# EAGLE library part DOUBLE (library dec-con)
Double-Height DEC board
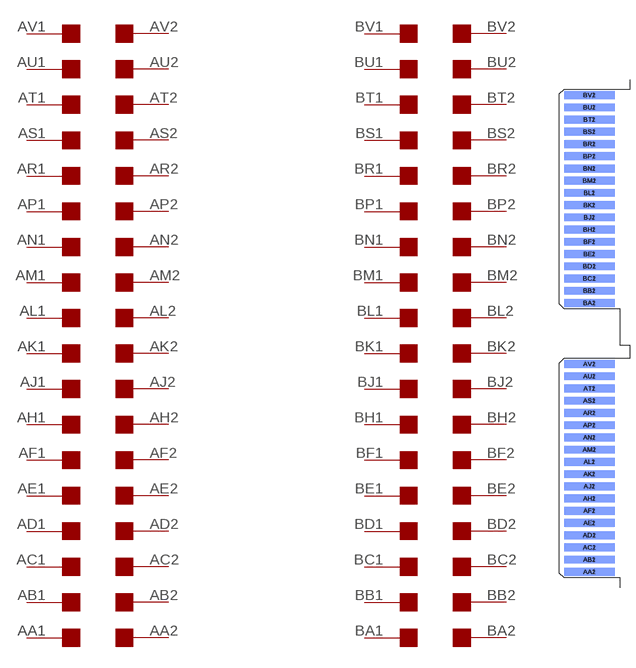
[diagram p5: symbol with the pads of EDGE-CON4; footprint EDGE-CON4]

Designator prefix -; gates AL2=EDGE-RIGHT AM2=EDGE-RIGHT AN2=EDGE-RIGHT AP2=EDGE-RIGHT AR2=EDGE-RIGHT AS2=EDGE-RIGHT AT2=EDGE-RIGHT AK2=EDGE-RIGHT AJ2=EDGE-RIGHT AH2=EDGE-RIGHT AF2=EDGE-RIGHT AE2=EDGE-RIGHT AD2=EDGE-RIGHT AC2=EDGE-RIGHT AU2=EDGE-RIGHT AV2=EDGE-RIGHT AB2=EDGE-RIGHT AA2=EDGE-RIGHT AK1=EDGE-LEFT AL1=EDGE-LEFT AM1=EDGE-LEFT AN1=EDGE-LEFT AP1=EDGE-LEFT AR1=EDGE-LEFT AS1=EDGE-LEFT AT1=EDGE-LEFT AU1=EDGE-LEFT AV1=EDGE-LEFT AJ1=EDGE-LEFT AH1=EDGE-LEFT AF1=EDGE-LEFT AE1=EDGE-LEFT AD1=EDGE-LEFT AC1=EDGE-LEFT AB1=EDGE-LEFT AA1=EDGE-LEFT BV1=EDGE-LEFT BU1=EDGE-LEFT BT1=EDGE-LEFT BS1=EDGE-LEFT BR1=EDGE-LEFT BP1=EDGE-LEFT BN1=EDGE-LEFT BM1=EDGE-LEFT BL1=EDGE-LEFT BK1=EDGE-LEFT BJ1=EDGE-LEFT BH1=EDGE-LEFT BF1=EDGE-LEFT BE1=EDGE-LEFT BD1=EDGE-LEFT BC1=EDGE-LEFT BB1=EDGE-LEFT BA1=EDGE-LEFT BV2=EDGE-RIGHT BU2=EDGE-RIGHT BT2=EDGE-RIGHT BS2=EDGE-RIGHT BR2=EDGE-RIGHT BP2=EDGE-RIGHT BN2=EDGE-RIGHT BM2=EDGE-RIGHT BL2=EDGE-RIGHT BK2=EDGE-RIGHT BJ2=EDGE-RIGHT BH2=EDGE-RIGHT BF2=EDGE-RIGHT BE2=EDGE-RIGHT BD2=EDGE-RIGHT BC2=EDGE-RIGHT BB2=EDGE-RIGHT BA2=EDGE-RIGHT

## DOUBLE  [EDGE-CON4]
AA1  AA1:1
AA2  AA2:1
AB1  AB1:1
AB2  AB2:1
AC1  AC1:1
AC2  AC2:1
AD1  AD1:1
AD2  AD2:1
AE1  AE1:1
AE2  AE2:1
AF1  AF1:1
AF2  AF2:1
AH1  AH1:1
AH2  AH2:1
AJ1  AJ1:1
AJ2  AJ2:1
AK1  AK1:1
AK2  AK2:1
AL1  AL1:1
AL2  AL2:1
AM1  AM1:1
AM2  AM2:1
AN1  AN1:1
AN2  AN2:1
AP1  AP1:1
AP2  AP2:1
AR1  AR1:1
AR2  AR2:1
AS1  AS1:1
AS2  AS2:1
AT1  AT1:1
AT2  AT2:1
AU1  AU1:1
AU2  AU2:1
AV1  AV1:1
AV2  AV2:1
BA1  BA1:1
BA2  BA2:1
BB1  BB1:1
BB2  BB2:1
BC1  BC1:1
BC2  BC2:1
BD1  BD1:1
BD2  BD2:1
BE1  BE1:1
BE2  BE2:1
BF1  BF1:1
BF2  BF2:1
BH1  BH1:1
BH2  BH2:1
BJ1  BJ1:1
BJ2  BJ2:1
BK1  BK1:1
BK2  BK2:1
BL1  BL1:1
BL2  BL2:1
BM1  BM1:1
BM2  BM2:1
BN1  BN1:1
BN2  BN2:1
BP1  BP1:1
BP2  BP2:1
BR1  BR1:1
BR2  BR2:1
BS1  BS1:1
BS2  BS2:1
BT1  BT1:1
BT2  BT2:1
BU1  BU1:1
BU2  BU2:1
BV1  BV1:1
BV2  BV2:1

## Footprint EDGE-CON4 (pad centres in mm)
Double-Height DEC edge connector
smd 13.106 x 2.032: AA1 7.938,4.128; AB1 7.938,7.303; AC1 7.938,10.477; AD1 7.938,13.652; AE1 7.938,16.828; AF1 7.938,20.003; AH1 7.938,23.177; AJ1 7.938,26.352; AK1 7.938,29.527; AL1 7.938,32.703; AM1 7.938,35.877; AN1 7.938,39.053; AP1 7.938,42.227; AR1 7.938,45.403; AS1 7.938,48.578; AT1 7.938,51.752; AU1 7.938,54.928; AV1 7.938,58.102; BA1 7.938,73.978; BB1 7.938,77.153; BC1 7.938,80.328; BD1 7.938,83.502; BE1 7.938,86.677; BF1 7.938,89.853; BH1 7.938,93.028; BJ1 7.938,96.203; BK1 7.938,99.377; BL1 7.938,102.552; BM1 7.938,105.728; BN1 7.938,108.903; BP1 7.938,112.078; BR1 7.938,115.252; BS1 7.938,118.427; BT1 7.938,121.603; BU1 7.938,124.778; BV1 7.938,127.953
smd 13.106 x 2.032 bottom: AA2 7.938,4.128; AB2 7.938,7.303; AC2 7.938,10.477; AD2 7.938,13.652; AE2 7.938,16.828; AF2 7.938,20.003; AH2 7.938,23.177; AJ2 7.938,26.352; AK2 7.938,29.527; AL2 7.938,32.703; AM2 7.938,35.877; AN2 7.938,39.053; AP2 7.938,42.227; AR2 7.938,45.403; AS2 7.938,48.578; AT2 7.938,51.752; AU2 7.938,54.928; AV2 7.938,58.102; BA2 7.938,73.978; BB2 7.938,77.153; BC2 7.938,80.328; BD2 7.938,83.502; BE2 7.938,86.677; BF2 7.938,89.853; BH2 7.938,93.028; BJ2 7.938,96.203; BK2 7.938,99.377; BL2 7.938,102.552; BM2 7.938,105.728; BN2 7.938,108.903; BP2 7.938,112.078; BR2 7.938,115.252; BS2 7.938,118.427; BT2 7.938,121.603; BU2 7.938,124.778; BV2 7.938,127.953